# Altium schematic symbol library Relay.SchLib: 2 symbols
Pins are listed as number, name and electrical type; pins without a type are passive.

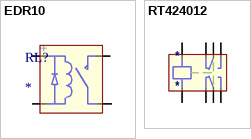
[diagram p0: symbols EDR10 to RT424012]

## EDR10
designator RL?
footprint EDR10
pins: 1, 3, 5, 7
text: +

## RT424012
designator *
footprint RT2
pins: 1, 2, 11, 12 2, 14, 21, 22, 24